# EAGLE library part 61003621121 (library Board-to-Board (rev18a))
WR-PHD 2.54mm Dual SMT Pin Header, 36 Pins =>Code : Con_BTB_PHD_2.54_2_61003621121 <http://katalog.we-online.de/media/images/eican/Con_BTB_PHD_2.54_2_6100xx21121_pf2.jpg> Details see: http://katalog.we-online.de/en/em/610_0xx_211_21 Created 2014-05-29, Karrer Zheng 2014 (C) Würth Elektronik
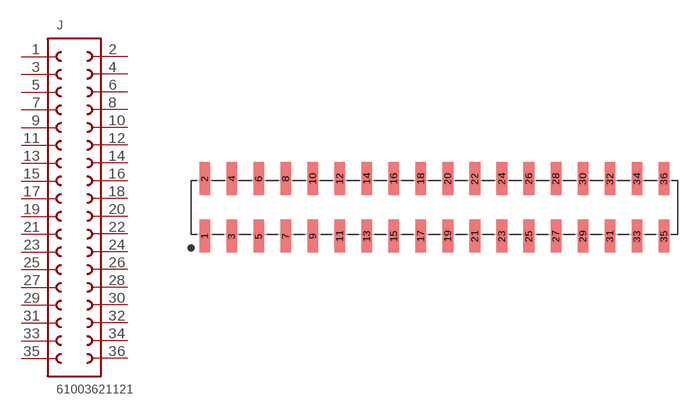
[diagram p87: symbol with the pads of 61003621121; footprint 61003621121]

Designator prefix J

## 61003621121  [61003621121]
1  1  pas
2  36  pas
3  2  pas
4  35  pas
5  3  pas
6  34  pas
7  4  pas
8  33  pas
9  5  pas
10  32  pas
11  6  pas
12  31  pas
13  7  pas
14  30  pas
15  8  pas
16  29  pas
17  9  pas
18  28  pas
19  10  pas
20  27  pas
21  11  pas
22  26  pas
23  12  pas
24  25  pas
25  13  pas
26  24  pas
27  14  pas
28  23  pas
29  15  pas
30  22  pas
31  16  pas
32  21  pas
33  17  pas
34  20  pas
35  18  pas
36  19  pas

## Footprint 61003621121 (pad centres in mm)
WR-PHD 2.54mm Dual SMT Pin Header, 36 Pins
smd 1 x 3.1: 1 -21.59,-2.7; 2 -21.59,2.7; 3 -19.05,-2.7; 4 -19.05,2.7; 5 -16.51,-2.7; 6 -16.51,2.7; 7 -13.97,-2.7; 8 -13.97,2.7; 9 -11.43,-2.7; 10 -11.43,2.7; 11 -8.89,-2.7; 12 -8.89,2.7; 13 -6.35,-2.7; 14 -6.35,2.7; 15 -3.81,-2.7; 16 -3.81,2.7; 17 -1.27,-2.7; 18 -1.27,2.7; 19 1.27,-2.7; 20 1.27,2.7; 21 3.81,-2.7; 22 3.81,2.7; 23 6.35,-2.7; 24 6.35,2.7; 25 8.89,-2.7; 26 8.89,2.7; 27 11.43,-2.7; 28 11.43,2.7; 29 13.97,-2.7; 30 13.97,2.7; 31 16.51,-2.7; 32 16.51,2.7; 33 19.05,-2.7; 34 19.05,2.7; 35 21.59,-2.7; 36 21.59,2.7